# EAGLE library part XBEE (library Header and Connector)
Xbee module footprints SMT header is CONN-09042.
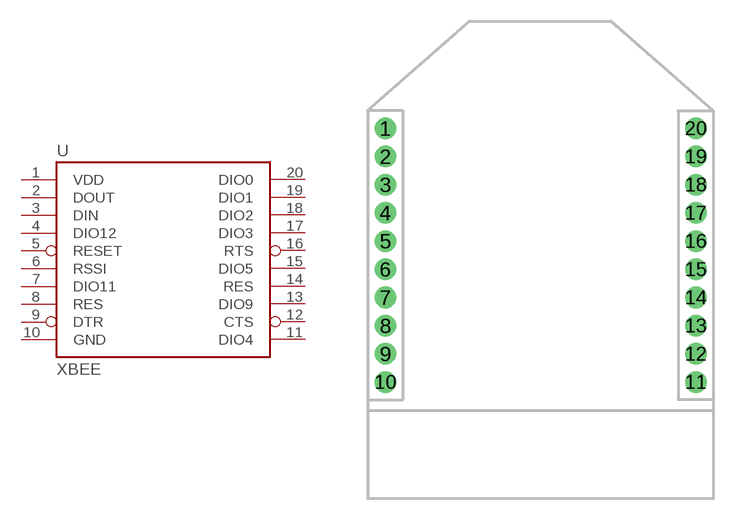
[diagram p25: symbol with the pads of XBEE; footprint XBEE]

Designator prefix -

## XBEEB1 (DESC: Xbee footprint)  [XBEE]
1  VDD  pwr
2  DOUT  out
3  DIN  in
4  DIO12
5  RESET  in
6  RSSI
7  DIO11
8  RES
9  DTR
10  GND  pwr
11  DIO4
12  CTS  out
13  DIO9
14  RES
15  DIO5
16  RTS  in
17  DIO3
18  DIO2
19  DIO1
20  DIO0

## Footprint XBEE (pad centres in mm)
Xbee footprint.
drill 0.8 pad 1.524: 1 -11,20; 2 -11,18; 3 -11,16; 4 -11,14; 5 -11,12; 6 -11,10; 7 -11,8; 8 -11,6; 9 -11,4; 10 -11,2; 11 11,2; 12 11,4; 13 11,6; 14 11,8; 15 11,10; 16 11,12; 17 11,14; 18 11,16; 19 11,18; 20 11,20